# EAGLE library part 057-040- (library con-panduit)
CONNECTOR 40-pin series 057 contact pc board low profile headers
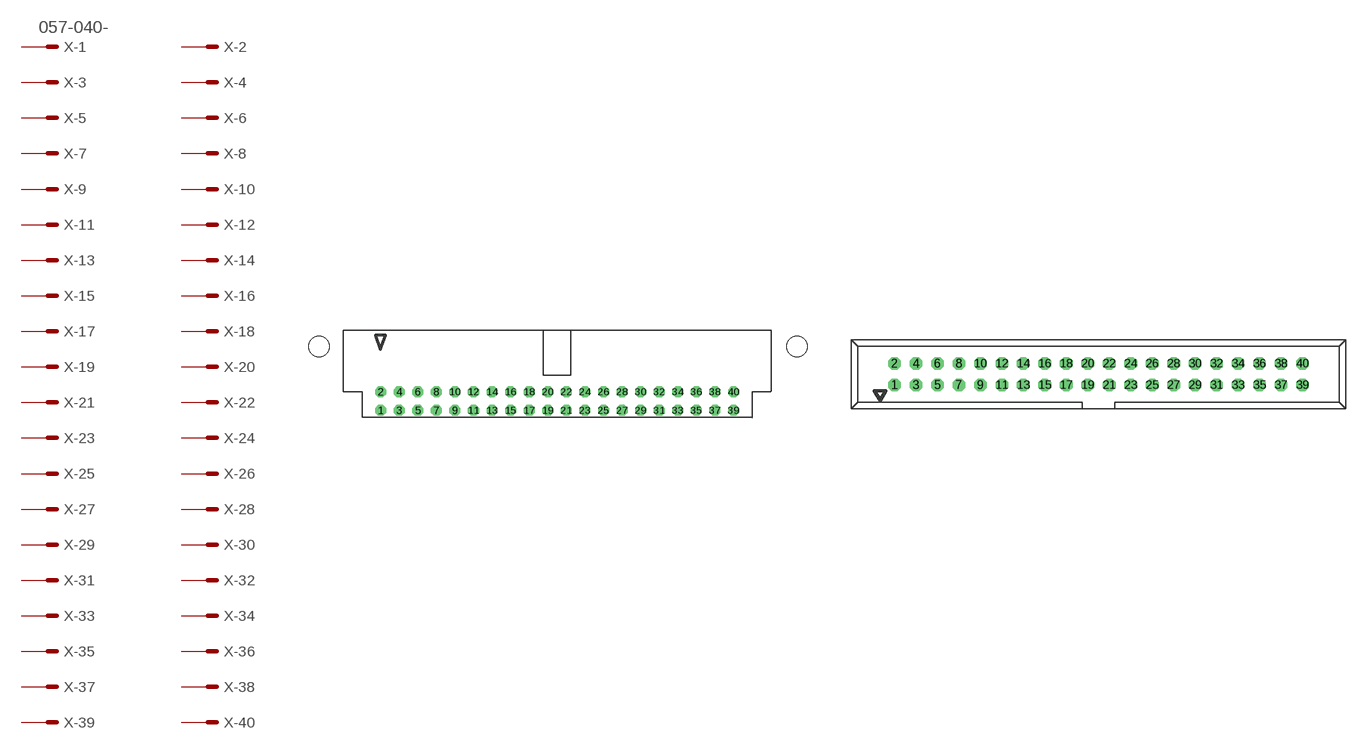
[diagram p10: symbol with the pads of 057-040-0; footprints 057-040-0, 057-040-1]

Designator prefix X; gates -1=MV -2=M -3=M -4=M -5=M -6=M -7=M -8=M -9=M -10=M -11=M -12=M -13=M -14=M -15=M -16=M -17=M -18=M -19=M -20=M -21=M -22=M -23=M -24=M -25=M -26=M -27=M -28=M -29=M -30=M -31=M -32=M -33=M -34=M -35=M -36=M -37=M -38=M -39=M -40=M

## 057-040-0 (OC_FARNELL: unknown; OC_NEWARK: unknown)  [057-040-0]
1  -1:S  pas
2  -2:S  pas
3  -3:S  pas
4  -4:S  pas
5  -5:S  pas
6  -6:S  pas
7  -7:S  pas
8  -8:S  pas
9  -9:S  pas
10  -10:S  pas
11  -11:S  pas
12  -12:S  pas
13  -13:S  pas
14  -14:S  pas
15  -15:S  pas
16  -16:S  pas
17  -17:S  pas
18  -18:S  pas
19  -19:S  pas
20  -20:S  pas
21  -21:S  pas
22  -22:S  pas
23  -23:S  pas
24  -24:S  pas
25  -25:S  pas
26  -26:S  pas
27  -27:S  pas
28  -28:S  pas
29  -29:S  pas
30  -30:S  pas
31  -31:S  pas
32  -32:S  pas
33  -33:S  pas
34  -34:S  pas
35  -35:S  pas
36  -36:S  pas
37  -37:S  pas
38  -38:S  pas
39  -39:S  pas
40  -40:S  pas

## 057-040-1 (OC_FARNELL: unknown; OC_NEWARK: unknown)  [057-040-1]
Pads as for 057-040-0

## Footprint 057-040-0 (pad centres in mm)
CONNECTOR series 057 contact pc board low profile headers angled
drill 1 octagon: 1 -24.13,-5.08; 2 -24.13,-2.54; 3 -21.59,-5.08; 4 -21.59,-2.54; 5 -19.05,-5.08; 6 -19.05,-2.54; 7 -16.51,-5.08; 8 -16.51,-2.54; 9 -13.97,-5.08; 10 -13.97,-2.54; 11 -11.43,-5.08; 12 -11.43,-2.54; 13 -8.89,-5.08; 14 -8.89,-2.54; 15 -6.35,-5.08; 16 -6.35,-2.54; 17 -3.81,-5.08; 18 -3.81,-2.54; 19 -1.27,-5.08; 20 -1.27,-2.54; 21 1.27,-5.08; 22 1.27,-2.54; 23 3.81,-5.08; 24 3.81,-2.54; 25 6.35,-5.08; 26 6.35,-2.54; 27 8.89,-5.08; 28 8.89,-2.54; 29 11.43,-5.08; 30 11.43,-2.54; 31 13.97,-5.08; 32 13.97,-2.54; 33 16.51,-5.08; 34 16.51,-2.54; 35 19.05,-5.08; 36 19.05,-2.54; 37 21.59,-5.08; 38 21.59,-2.54; 39 24.13,-5.08; 40 24.13,-2.54
hole 2.8 at -32.53,3.66
hole 2.8 at 32.78,3.66

## Footprint 057-040-1 (pad centres in mm)
CONNECTOR series 057 contact pc board low profile headers straight
drill 1 octagon: 1 -24.13,-1.27; 2 -24.13,1.27; 3 -21.59,-1.27; 4 -21.59,1.27; 5 -19.05,-1.27; 6 -19.05,1.27; 7 -16.51,-1.27; 8 -16.51,1.27; 9 -13.97,-1.27; 10 -13.97,1.27; 11 -11.43,-1.27; 12 -11.43,1.27; 13 -8.89,-1.27; 14 -8.89,1.27; 15 -6.35,-1.27; 16 -6.35,1.27; 17 -3.81,-1.27; 18 -3.81,1.27; 19 -1.27,-1.27; 20 -1.27,1.27; 21 1.27,-1.27; 22 1.27,1.27; 23 3.81,-1.27; 24 3.81,1.27; 25 6.35,-1.27; 26 6.35,1.27; 27 8.89,-1.27; 28 8.89,1.27; 29 11.43,-1.27; 30 11.43,1.27; 31 13.97,-1.27; 32 13.97,1.27; 33 16.51,-1.27; 34 16.51,1.27; 35 19.05,-1.27; 36 19.05,1.27; 37 21.59,-1.27; 38 21.59,1.27; 39 24.13,-1.27; 40 24.13,1.27